# EAGLE library part 93LC56A/B (library pixel)
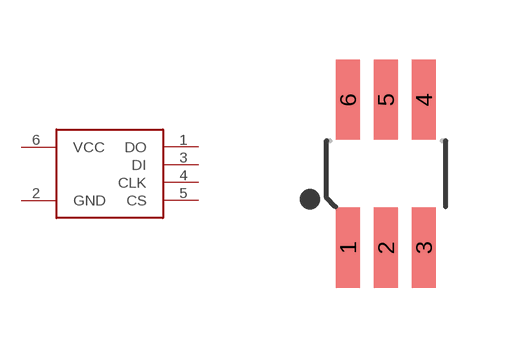
[diagram p7: symbol with the pads of SOT-23-6-LL; footprint SOT-23-6-LL]

Designator prefix -

## 93LC56A/B  [SOT-23-6-LL]
1  DO
2  GND
3  DI
4  CLK
5  CS
6  VCC

## Footprint SOT-23-6-LL (pad centres in mm)
smd 0.6 x 2: 1 -0.95,-1.85; 2 0,-1.85; 3 0.95,-1.85; 4 0.95,1.85; 5 0,1.85; 6 -0.95,1.85